# Altium schematic symbol library JLC_Lib.SchLib: 56 symbols
Pins are listed as number, name and electrical type; pins without a type are passive.

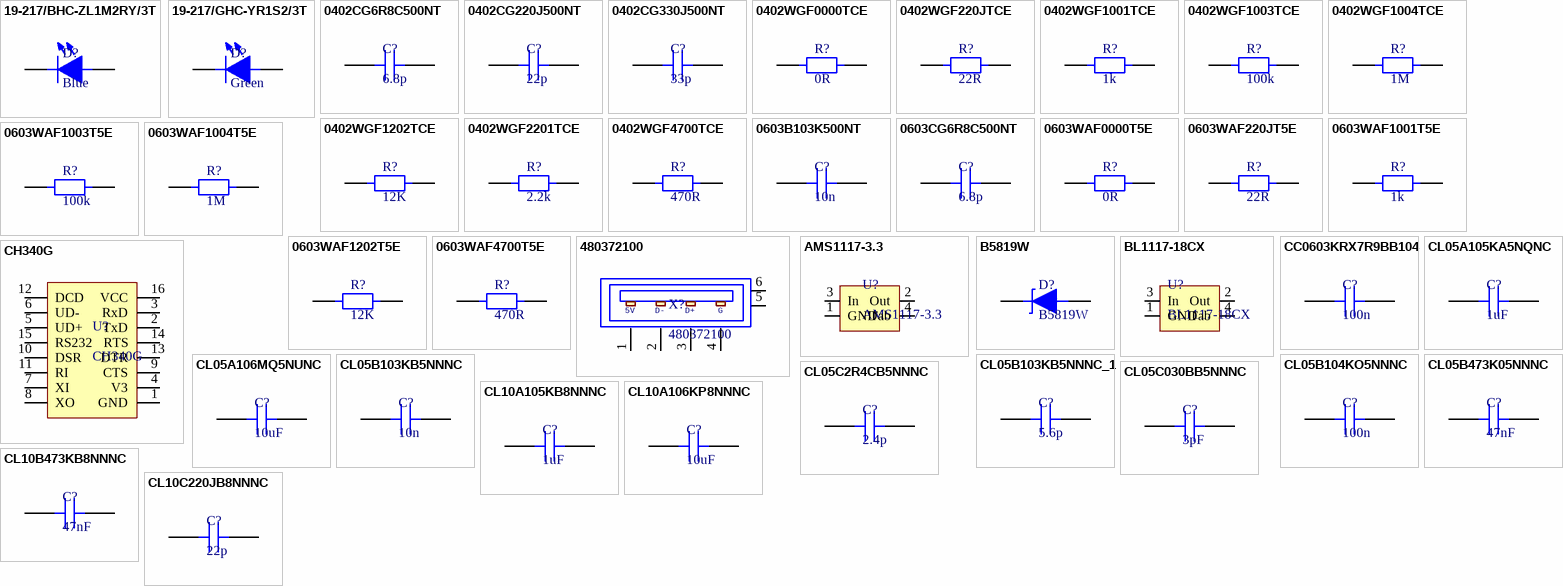
[diagram p0: symbols 19-217/BHC-ZL1M2RY/3T to CL10C220JB8NNNC]

## 19-217/BHC-ZL1M2RY/3T
designator D?, comment Blue
LIGHT EMITTING DIODES (LED) BLUE 465~475NM 11.5~28.5MCD@5MA TOP VIEW 0603 ROHS; Manufacturer: Everlight Elec; MFR.Part #: 19-217/BHC-ZL1M2RY/3T; Category: LED's; LCSC Part #: C72041; Package: LED_0603; Datasheet: https://datasheet.lcsc.com/szlcsc/Everlight-Elec-19-217-BHC-ZL1M2RY-3T_C72041.pdf
footprint LED 0603
pins: 1, 2

## 19-217/GHC-YR1S2/3T
designator D?, comment Green
LIGHT EMITTING DIODES (LED) GREEN 520~535NM 112~258MCD@20MA TOP VIEW 0603 ROHS; Manufacturer: Everlight Elec; MFR.Part #: 19-217/GHC-YR1S2/3T; Category: LED's; LCSC Part #: C72043; Package: LED_0603; Datasheet: https://datasheet.lcsc.com/szlcsc/Everlight-Elec-19-217-GHC-YR1S2-3T_C72043.pdf
footprint LED 0603
pins: 1, 2

## 0402CG6R8C500NT
designator C?, comment 6.8p
MULTILAYER CERAMIC CAPACITORS MLCC - SMD/SMT 6.8PF 50V 0402 ROHS; Manufacturer: Guangdong Fenghua Advanced Tech; MFR.Part #: 0402CG6R8C500NT; Category: Capacitors; LCSC Part #: C1576; Package: 0402; Datasheet: https://datasheet.lcsc.com/szlcsc/Guangdong-Fenghua-Advanced-Tech-0402CG6R8C500NT_C1576.pdf
footprint 0402 (Chip Capacitor, 2-Leads, Body 1.00x0.50mm, IPC Medium Density)
pins: 1, 2

## 0402CG220J500NT
designator C?, comment 22p
MULTILAYER CERAMIC CAPACITORS MLCC - SMD/SMT 22PF 50V 0402 ROHS; Manufacturer: Guangdong Fenghua Advanced Tech; MFR.Part #: 0402CG220J500NT; Category: Capacitors; LCSC Part #: C1555; Package: 0402; Datasheet: https://datasheet.lcsc.com/szlcsc/Guangdong-Fenghua-Advanced-Tech-0402CG220J500NT_C1555.pdf
footprint 0402 (Chip Capacitor, 2-Leads, Body 1.00x0.50mm, IPC Medium Density)
pins: 1, 2

## 0402CG330J500NT
designator C?, comment 33p
MULTILAYER CERAMIC CAPACITORS MLCC - SMD/SMT 33PF 50V 0402 ROHS; Manufacturer: Guangdong Fenghua Advanced Tech; MFR.Part #: 0402CG330J500NT; Category: Capacitors; LCSC Part #: C1562; Package: 0402; Datasheet: https://datasheet.lcsc.com/szlcsc/Guangdong-Fenghua-Advanced-Tech-0402CG330J500NT_C1562.pdf
footprint 0402 (Chip Capacitor, 2-Leads, Body 1.00x0.50mm, IPC Medium Density)
pins: 1, 2

## 0402WGF0000TCE
designator R?, comment 0R
CHIP RESISTOR - SURFACE MOUNT 0OHMS ±1% 1/16W 0402 ROHS; Manufacturer: Uniroyal Elec; MFR.Part #: 0402WGF0000TCE; Category: Resistors; LCSC Part #: C17168; Package: 0402; Datasheet: https://datasheet.lcsc.com/szlcsc/Uniroyal-Elec-0402WGF0000TCE_C17168.pdf
footprint 0402 RES
pins: 1, 2

## 0402WGF220JTCE
designator R?, comment 22R
CHIP RESISTOR - SURFACE MOUNT 22OHMS ±1% 1/16W 0402 ROHS; Manufacturer: Uniroyal Elec; MFR.Part #: 0402WGF220JTCE; Category: Resistors; LCSC Part #: C25092; Package: 0402; Datasheet: https://datasheet.lcsc.com/szlcsc/Uniroyal-Elec-0402WGF220JTCE_C25092.pdf
footprint 0402 RES
pins: 1, 2

## 0402WGF1001TCE
designator R?, comment 1k
CHIP RESISTOR - SURFACE MOUNT 1KOHMS ±1% 1/16W 0402 ROHS; Manufacturer: Uniroyal Elec; MFR.Part #: 0402WGF1001TCE; Category: Resistors; LCSC Part #: C11702; Package: 0402; Datasheet: https://datasheet.lcsc.com/szlcsc/Uniroyal-Elec-0402WGF1001TCE_C11702.pdf
footprint 0402 RES
pins: 1, 2

## 0402WGF1003TCE
designator R?, comment 100k
CHIP RESISTOR - SURFACE MOUNT 100KOHMS ±1% 1/16W 0402 ROHS; Manufacturer: Uniroyal Elec; MFR.Part #: 0402WGF1003TCE; Category: Resistors; LCSC Part #: C25741; Package: 0402; Datasheet: https://datasheet.lcsc.com/szlcsc/Uniroyal-Elec-0402WGF1003TCE_C25741.pdf
footprint 0402 RES
pins: 1, 2

## 0402WGF1004TCE
designator R?, comment 1M
CHIP RESISTOR - SURFACE MOUNT 1MOHMS ±1% 1/16W 0402 ROHS; Manufacturer: Uniroyal Elec; MFR.Part #: 0402WGF1004TCE; Category: Resistors; LCSC Part #: C26083; Package: 0402; Datasheet: https://datasheet.lcsc.com/szlcsc/Uniroyal-Elec-0402WGF1004TCE_C26083.pdf
footprint 0402 RES
pins: 1, 2

## 0402WGF1202TCE
designator R?, comment 12K
CHIP RESISTOR - SURFACE MOUNT 12KOHMS ±1% 1/16W 0402 ROHS; Manufacturer: Uniroyal Elec; MFR.Part #: 0402WGF1202TCE; Category: Resistors; LCSC Part #: C25752; Package: 0402; Datasheet: https://datasheet.lcsc.com/szlcsc/Uniroyal-Elec-0402WGF1202TCE_C25752.pdf
footprint 0402 RES
pins: 1, 2

## 0402WGF2201TCE
designator R?, comment 2.2k
CHIP RESISTOR - SURFACE MOUNT 2.2KOHMS ±1% 1/16W 0402 ROHS; Manufacturer: Uniroyal Elec; MFR.Part #: 0402WGF2201TCE; Category: Resistors; LCSC Part #: C25879; Package: 0402; Datasheet: https://datasheet.lcsc.com/szlcsc/Uniroyal-Elec-0402WGF2201TCE_C25879.pdf
footprint 0402 RES
pins: 1, 2

## 0402WGF4700TCE
designator R?, comment 470R
CHIP RESISTOR - SURFACE MOUNT 470OHMS ±1% 1/16W 0402 ROHS; Manufacturer: Uniroyal Elec; MFR.Part #: 0402WGF4700TCE; Category: Resistors; LCSC Part #: C25117; Package: 0402; Datasheet: https://datasheet.lcsc.com/szlcsc/Uniroyal-Elec-0402WGF4700TCE_C25117.pdf
footprint 0402 RES
pins: 1, 2

## 0603B103K500NT
designator C?, comment 10n
MULTILAYER CERAMIC CAPACITORS MLCC - SMD/SMT 10NF 50V 0603 ROHS; Manufacturer: Guangdong Fenghua Advanced Tech; MFR.Part #: 0603B103K500NT; Category: Capacitors; LCSC Part #: C57112; Package: 0603; Datasheet: https://datasheet.lcsc.com/szlcsc/Guangdong-Fenghua-Advanced-Tech-0603B103K500NT_C57112.pdf
footprint 0603 CAP
pins: 1, 2

## 0603CG6R8C500NT
designator C?, comment 6.8p
MULTILAYER CERAMIC CAPACITORS MLCC - SMD/SMT 6.8PF 50V 0603 ROHS; Manufacturer: Guangdong Fenghua Advanced Tech; MFR.Part #: 0603CG6R8C500NT; Category: Capacitors; LCSC Part #: C1679; Package: 0603; Datasheet: https://datasheet.lcsc.com/szlcsc/Guangdong-Fenghua-Advanced-Tech-0603CG6R8C500NT_C1679.pdf
footprint 0603 CAP
pins: 1, 2

## 0603WAF0000T5E
designator R?, comment 0R
CHIP RESISTOR - SURFACE MOUNT 0OHMS ±1% 1/10W 0603 ROHS; Manufacturer: Uniroyal Elec; MFR.Part #: 0603WAF0000T5E; Category: Resistors; LCSC Part #: C21189; Package: 0603; Datasheet: https://datasheet.lcsc.com/szlcsc/Uniroyal-Elec-0603WAF0000T5E_C21189.pdf
footprint 0603 RES
pins: 1, 2

## 0603WAF220JT5E
designator R?, comment 22R
CHIP RESISTOR - SURFACE MOUNT 22OHMS ±1% 1/10W 0603 ROHS; Manufacturer: Uniroyal Elec; MFR.Part #: 0603WAF220JT5E; Category: Resistors; LCSC Part #: C23345; Package: 0603; Datasheet: https://datasheet.lcsc.com/szlcsc/Uniroyal-Elec-0603WAF220JT5E_C23345.pdf
footprint 0603 RES
pins: 1, 2

## 0603WAF1001T5E
designator R?, comment 1k
CHIP RESISTOR - SURFACE MOUNT 1KOHMS ±1% 1/10W 0603 ROHS; Manufacturer: Uniroyal Elec; MFR.Part #: 0603WAF1001T5E; Category: Resistors; LCSC Part #: C21190; Package: 0603; Datasheet: https://datasheet.lcsc.com/szlcsc/Uniroyal-Elec-0603WAF1001T5E_C21190.pdf
footprint 0603 RES
pins: 1, 2

## 0603WAF1003T5E
designator R?, comment 100k
CHIP RESISTOR - SURFACE MOUNT 100KOHMS ±1% 1/10W 0603 ROHS; Manufacturer: Uniroyal Elec; MFR.Part #: 0603WAF1003T5E; Category: Resistors; LCSC Part #: C25803; Package: 0603; Datasheet: https://datasheet.lcsc.com/szlcsc/Uniroyal-Elec-0603WAF1003T5E_C25803.pdf
footprint 0603 RES
pins: 1, 2

## 0603WAF1004T5E
designator R?, comment 1M
CHIP RESISTOR - SURFACE MOUNT 1MOHMS ±1% 1/10W 0603 ROHS; Manufacturer: Uniroyal Elec; MFR.Part #: 0603WAF1004T5E; Category: Resistors; LCSC Part #: C22935; Package: 0603; Datasheet: https://datasheet.lcsc.com/szlcsc/Uniroyal-Elec-0603WAF1004T5E_C22935.pdf
footprint 0603 RES
pins: 1, 2

## 0603WAF1202T5E
designator R?, comment 12K
CHIP RESISTOR - SURFACE MOUNT 12KOHMS ±1% 1/10W 0603 ROHS; Manufacturer: Uniroyal Elec; MFR.Part #: 0603WAF1202T5E; Category: Resistors; LCSC Part #: C22790; Package: 0603; Datasheet: https://datasheet.lcsc.com/szlcsc/Uniroyal-Elec-0603WAF1202T5E_C22790.pdf
footprint 0603 RES
pins: 1, 2

## 0603WAF4700T5E
designator R?, comment 470R
CHIP RESISTOR - SURFACE MOUNT 470OHMS ±1% 1/10W 0603 ROHS; Manufacturer: Uniroyal Elec; MFR.Part #: 0603WAF4700T5E; Category: Resistors; LCSC Part #: C23179; Package: 0603; Datasheet: https://datasheet.lcsc.com/szlcsc/Uniroyal-Elec-0603WAF4700T5E_C23179.pdf
footprint 0603 RES
pins: 1, 2

## 480372100
designator X?
USB - Type A Male USB 2 4 Through Hole USB Connectors RoHS; Manufacturer: MOLEX; Category: Connectors; MFR.Part #: 480372100; LCSC Part #: C136453; Package: Through Hole; Datasheet: https://datasheet.lcsc.com/szlcsc/1811131824_MOLEX-480372100_C136453.pdf
footprint USB2.0-A
pins: 1 5V, 2 DX_N, 3 DX_P, 4 GND, 5, 6
text: D-; D+; G

## AMS1117-3.3
designator U?
LOW DROPOUT REGULATORS(LDO) POSITIVE FIXED 1.3V @ 800MA 15V 3.3V 1A SOT-223 ROHS; Manufacturer: Advanced Monolithic Systems; Category: IC's; MFR.Part #: AMS1117-3.3; LCSC Part #: C6186; Package: SOT-223; Datasheet: https://datasheet.lcsc.com/szlcsc/1811201117_Advanced-Monolithic-Systems-AMS-AMS1117-3-3_C6186.pdf; ComponentLink1Description: AMS1117-3-3_C6186; ComponentLink1URL: https://datasheet.lcsc.com/szlcsc/1811201117_Advanced-Monolithic-Systems-AMS-AMS1117-3-3_C6186.pdf
footprint SOT233-3 (SOT223, 4-Leads, Body 6.50x7.00mm (avg), Pitch 2.30mm, IPC Medium Density)
pins: 1 GND, 2 Out, 3 In, 4 Tab

## B5819W
designator D?
SCHOTTKY BARRIER DIODES (SBD) SOD-123 ROHS; Manufacturer: Changjiang Electronics Tech (CJ); Category: Diodes; MFR.Part #: B5819W; LCSC Part #: C8598; Package: SOD-123; Datasheet: https://datasheet.lcsc.com/szlcsc/Changjiang-Electronics-Tech-CJ-B5819W_C8598.pdf
footprint SOD-123 (SOD, 2-Leads, Body 1.60x3.70mm, IPC Medium Density)
pins: 1 A, 2 K

## BL1117-18CX
designator U?
LOW DROPOUT REGULATORS(LDO) POSITIVE FIXED 1.5V @ 1A 12V 1.8V 1A SOT-223 ROHS; Manufacturer: Shanghai Belling; Library Type: Extended; Category: IC's; MFR.Part #: BL1117-18CX; LCSC Part #: C78971; Package: SOT-223; Datasheet: https://datasheet.lcsc.com/szlcsc/Shanghai-Belling-BL1117-18CX_C78971.pdf
footprint SOT233-3 (SOT223, 4-Leads, Body 6.50x7.00mm (avg), Pitch 2.30mm, IPC Medium Density)
pins: 1 GND, 2 Out, 3 In, 4 Tab

## CC0603KRX7R9BB104
designator C?, comment 100n
MULTILAYER CERAMIC CAPACITORS MLCC - SMD/SMT 100NF 50V 0603 ROHS; Manufacturer: YAGEO; MFR.Part #: CC0603KRX7R9BB104; Category: Capacitors; LCSC Part #: C14663; Package: 0603; Datasheet: https://datasheet.lcsc.com/szlcsc/YAGEO-CC0603KRX7R9BB104_C14663.pdf
footprint 0603 CAP
pins: 1, 2

## CH340G
designator U?
USB 2MBPS 3.3V, 5V SOP-16_150MIL ROHS; Manufacturer: Jiangsu Qin Heng; Category: IC's; MFR.Part #: CH340G; LCSC Part #: C14267; Package: SOIC-16_3.9x9.9x1.27P; Datasheet: https://datasheet.lcsc.com/szlcsc/Jiangsu-Qin-Heng-CH340G_C14267.pdf
footprint SOP-16 (SOP, 16-Leads, Body 9.90x3.90mm, Pitch 1.27mm, IPC Medium Density)
pins: 1 GND, 2 TxD, 3 RxD, 4 V3, 5 UD+, 6 UD-, 7 XI, 8 XO, 9 CTS, 10 DSR, 11 RI, 12 DCD, 13 DTR, 14 RTS, 15 RS232, 16 VCC

## CL05A105KA5NQNC
designator C?, comment 1uF
MULTILAYER CERAMIC CAPACITORS MLCC - SMD/SMT 1UF 25V 0402 ROHS; Manufacturer: Samsung Electro-Mechanics; MFR.Part #: CL05A105KA5NQNC; Category: Capacitors; LCSC Part #: C52923; Package: 0402; Datasheet: https://datasheet.lcsc.com/szlcsc/Samsung-Electro-Mechanics-CL05A105KA5NQNC_C52923.pdf
footprint 0402 (Chip Capacitor, 2-Leads, Body 1.00x0.50mm, IPC Medium Density)
pins: 1, 2

## CL05A106MQ5NUNC
designator C?, comment 10uF
MULTILAYER CERAMIC CAPACITORS MLCC - SMD/SMT 10UF 6.3V 0402 ROHS; Manufacturer: Samsung Electro-Mechanics; MFR.Part #: CL05A106MQ5NUNC; Category: Capacitors; LCSC Part #: C15525; Package: 0402; Datasheet: https://datasheet.lcsc.com/szlcsc/Samsung-Electro-Mechanics-CL05A106MQ5NUNC_C15525.pdf
footprint 0402 (Chip Capacitor, 2-Leads, Body 1.00x0.50mm, IPC Medium Density)
pins: 1, 2

## CL05B103KB5NNNC
designator C?, comment 10n
MULTILAYER CERAMIC CAPACITORS MLCC - SMD/SMT 10NF 50V 0402 ROHS; Manufacturer: Samsung Electro-Mechanics; MFR.Part #: CL05B103KB5NNNC; Category: Capacitors; LCSC Part #: C15195; Package: 0402; Datasheet: https://datasheet.lcsc.com/szlcsc/Samsung-Electro-Mechanics-CL05B103KB5NNNC_C15195.pdf
footprint 0402 (Chip Capacitor, 2-Leads, Body 1.00x0.50mm, IPC Medium Density)
pins: 1, 2

## CL05B103KB5NNNC_1
designator C?, comment 5.6p
5.6PF ±0.25PF 50V C0G 0402 MULTILAYER CERAMIC CAPACITORS MLCC - SMD/SMT ROHS; Manufacturer: Samsung Electro-Mechanics; MFR.Part #: CL05C5R6CB5NNNC; Library Type: Extended; Category: Capacitors; LCSC Part #: C318596; Package: 0402; Datasheet: https://datasheet.lcsc.com/szlcsc/1811131657_Samsung-Electro-Mechanics-CL05C5R6CB5NNNC_C318596.pdf; ComponentLink1Description: CL05C5R6CB5NNNC_C318596.pdf; ComponentLink1URL: https://datasheet.lcsc.com/szlcsc/1811131657_Samsung-Electro-Mechanics-CL05C5R6CB5NNNC_C318596.pdf
footprint 0402 (Chip Capacitor, 2-Leads, Body 1.00x0.50mm, IPC Medium Density)
pins: 1, 2

## CL05B104KO5NNNC
designator C?, comment 100n
MULTILAYER CERAMIC CAPACITORS MLCC - SMD/SMT 100NF 16V 0402 ROHS; Manufacturer: Samsung Electro-Mechanics; MFR.Part #: CL05B104KO5NNNC; Category: Capacitors; LCSC Part #: C1525; Package: 0402; Datasheet: https://datasheet.lcsc.com/szlcsc/Samsung-Electro-Mechanics-CL05B104KO5NNNC_C1525.pdf
footprint 0402 (Chip Capacitor, 2-Leads, Body 1.00x0.50mm, IPC Medium Density)
pins: 1, 2

## CL05B473K05NNNC
designator C?, comment 47nF
MULTILAYER CERAMIC CAPACITORS MLCC - SMD/SMT 47NF 16V 0402 ROHS; Manufacturer: Samsung Electro-Mechanics; MFR.Part #: CL05B473K05NNNC; Category: Capacitors; LCSC Part #: C26403; Package: 0402; Datasheet: https://datasheet.lcsc.com/szlcsc/Samsung-Electro-Mechanics-CL05B473K05NNNC_C26403.pdf
footprint 0402 (Chip Capacitor, 2-Leads, Body 1.00x0.50mm, IPC Medium Density)
pins: 1, 2

## CL05C2R4CB5NNNC
designator C?, comment 2.4p
MULTILAYER CERAMIC CAPACITORS MLCC - SMD/SMT 2.4PF 50V 0402 ROHS; Manufacturer: Samsung Electro-Mechanics; MFR.Part #: CL05C2R4CB5NNNC; Library Type: Extended; Category: Capacitors; LCSC Part #: C318575; Package: 0402; Datasheet: https://datasheet.lcsc.com/szlcsc/Samsung-Electro-Mechanics-CL05C2R4CB5NNNC_C318575.pdf
footprint 0402 (Chip Capacitor, 2-Leads, Body 1.00x0.50mm, IPC Medium Density)
pins: 1, 2

## CL05C030BB5NNNC
designator C?, comment 3pF
MULTILAYER CERAMIC CAPACITORS MLCC - SMD/SMT 3PF 50V 0402 ROHS; Manufacturer: Samsung Electro-Mechanics; MFR.Part #: CL05C030BB5NNNC; Library Type: Extended; Category: Capacitors; LCSC Part #: C318583; Package: 0402; Datasheet: https://datasheet.lcsc.com/szlcsc/Samsung-Electro-Mechanics-CL05C030BB5NNNC_C318583.pdf
footprint 0402 (Chip Capacitor, 2-Leads, Body 1.00x0.50mm, IPC Medium Density)
pins: 1, 2

## CL10A105KB8NNNC
designator C?, comment 1uF
MULTILAYER CERAMIC CAPACITORS MLCC - SMD/SMT 1UF 50V 0603 ROHS; Manufacturer: Samsung Electro-Mechanics; MFR.Part #: CL10A105KB8NNNC; Category: Capacitors; LCSC Part #: C15849; Package: 0603; Datasheet: https://datasheet.lcsc.com/szlcsc/Samsung-Electro-Mechanics-CL10A105KB8NNNC_C15849.pdf
footprint 0603 CAP
pins: 1, 2

## CL10A106KP8NNNC
designator C?, comment 10uF
MULTILAYER CERAMIC CAPACITORS MLCC - SMD/SMT 10UF 10V 0603 ROHS; Manufacturer: Samsung Electro-Mechanics; MFR.Part #: CL10A106KP8NNNC; Category: Capacitors; LCSC Part #: C19702; Package: 0603; Datasheet: https://datasheet.lcsc.com/szlcsc/Samsung-Electro-Mechanics-CL10A106KP8NNNC_C19702.pdf
footprint 0603 CAP
pins: 1, 2

## CL10B473KB8NNNC
designator C?, comment 47nF
MULTILAYER CERAMIC CAPACITORS MLCC - SMD/SMT 47NF 50V 0603 ROHS; Manufacturer: Samsung Electro-Mechanics; MFR.Part #: CL10B473KB8NNNC; Category: Capacitors; LCSC Part #: C1622; Package: 0603; Datasheet: https://datasheet.lcsc.com/szlcsc/Samsung-Electro-Mechanics-CL10B473KB8NNNC_C1622.pdf
footprint 0603 CAP
pins: 1, 2

## CL10C220JB8NNNC
designator C?, comment 22p
MULTILAYER CERAMIC CAPACITORS MLCC - SMD/SMT 22PF 50V 0603 ROHS; Manufacturer: Samsung Electro-Mechanics; MFR.Part #: CL10C220JB8NNNC; Category: Capacitors; LCSC Part #: C1653; Package: 0603; Datasheet: https://datasheet.lcsc.com/szlcsc/Samsung-Electro-Mechanics-CL10C220JB8NNNC_C1653.pdf
footprint 0603 CAP
pins: 1, 2

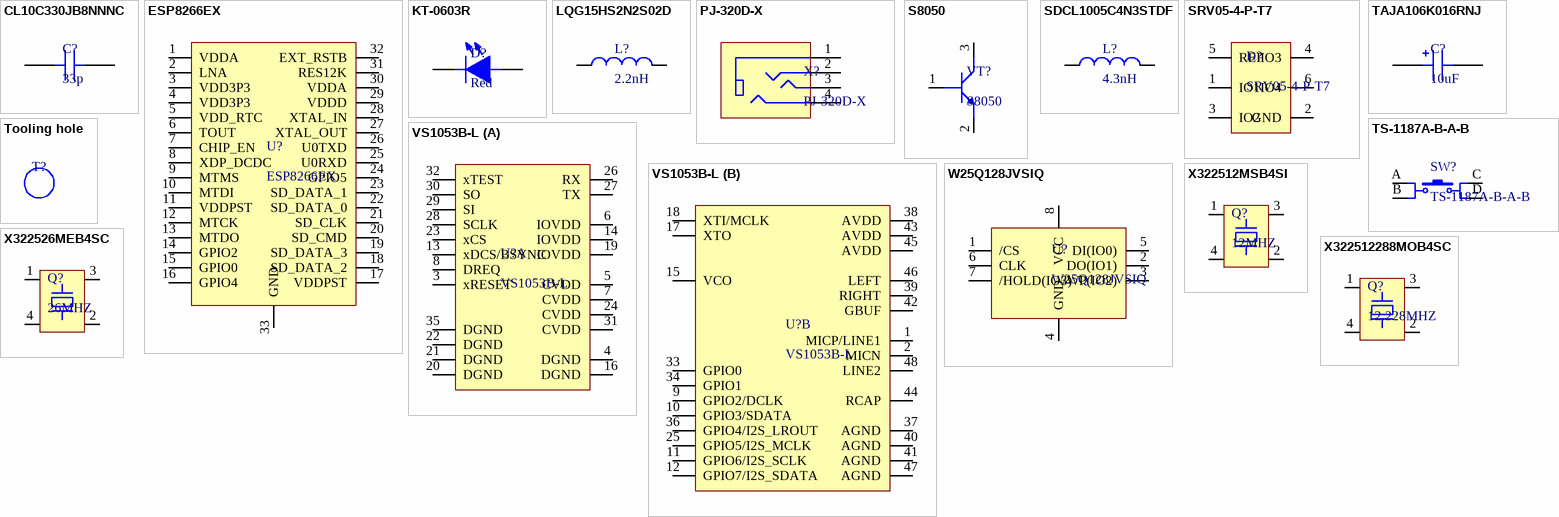
[diagram p1: symbols CL10C330JB8NNNC to X322512288MOB4SC]

## CL10C330JB8NNNC
designator C?, comment 33p
MULTILAYER CERAMIC CAPACITORS MLCC - SMD/SMT 33PF 50V 0603 ROHS; Manufacturer: Samsung Electro-Mechanics; MFR.Part #: CL10C330JB8NNNC; Category: Capacitors; LCSC Part #: C1663; Package: 0603; Datasheet: https://datasheet.lcsc.com/szlcsc/Samsung-Electro-Mechanics-CL10C330JB8NNNC_C1663.pdf
footprint 0603 CAP
pins: 1, 2

## ESP8266EX
designator U?
RF TRANSCEIVER ICS TXRX + MCU WIFI 802.11B/G/N/E/I 2.4GHZ 16DBM - 91DBM 2.5V~3.6V QFN-32_5X5X05P ROHS; Manufacturer: Espressif Systems; Library Type: Extended; Category: IC's; MFR.Part #: ESP8266EX; LCSC Part #: C77967; Package: QFN-32_EP_5.0x5.0x0.5P; Datasheet: https://datasheet.lcsc.com/szlcsc/Espressif-Systems-ESP8266EX_C77967.pdf
footprint QFN-32 Thermal (QFN, 32-Leads, Body 5.00x5.00mm, Pitch 0.50mm, Thermal Pad 3.70x3.70mm, IPC Medium Density)
pins: 1 VDDA, 2 LNA, 3 VDD3P3, 4 VDD3P3, 5 VDD_RTC, 6 TOUT, 7 CHIP_EN, 8 XDP_DCDC, 9 MTMS, 10 MTDI, 11 VDDPST, 12 MTCK, 13 MTDO, 14 GPIO2, 15 GPIO0, 16 GPIO4, 17 VDDPST, 18 SD_DATA_2, 19 SD_DATA_3, 20 SD_CMD, 21 SD_CLK, 22 SD_DATA_0, 23 SD_DATA_1, 24 GPIO5, 25 U0RXD, 26 U0TXD, 27 XTAL_OUT, 28 XTAL_IN, 29 VDDD, 30 VDDA, 31 RES12K, 32 EXT_RSTB, 33 GND

## KT-0603R
designator D?, comment Red
LIGHT EMITTING DIODES (LED) RED 520~625NM 90~100MCD@20MA TOP VIEW 0603 ROHS; Manufacturer: Hubei KENTO Elec; MFR.Part #: KT-0603R; Category: LED's; LCSC Part #: C2286; Package: LED_0603; Datasheet: https://datasheet.lcsc.com/szlcsc/Hubei-KENTO-Elec-KT-0603R_C2286.pdf
footprint LED 0603
pins: 1, 2

## LQG15HS2N2S02D
designator L?, comment 2.2nH
HF INDUCTORS 2.2NH ±0.3NH 900MA 0402 ROHS; Manufacturer: Murata Electronics; MFR.Part #: LQG15HS2N2S02D; Library Type: Extended; Category: Inductors; LCSC Part #: C86061; Package: 0402; Datasheet: https://datasheet.lcsc.com/szlcsc/Murata-Electronics-LQG15HS2N2S02D_C86061.pdf
footprint 0402 (Chip Capacitor, 2-Leads, Body 1.00x0.50mm, IPC Medium Density)
pins: 1, 2

## PJ-320D-X
designator X?
3.5mm SMD Headphone Holder 4 Female Horizontal SMD Audio & Video Connectors RoHS; Manufacturer: XKB Enterprise; Category: Connectors; MFR.Part #: PJ-320D-X; LCSC Part #: C319111; Package: SMD; Datasheet: https://datasheet.lcsc.com/szlcsc/1810301445_XKB-Enterprise-PJ-320D-X_C319111.pdf; ComponentLink1Description: PJ-320D-X; ComponentLink1URL: https://datasheet.lcsc.com/szlcsc/1810301445_XKB-Enterprise-PJ-320D-X_C319111.pdf
footprint 3.5mm Jack
pins: 1, 2, 3, 4

## S8050
designator VT?
TRANSISTORS (NPN/PNP) NPN 500MA 25V SOT-23(SOT-23-3) ROHS; Manufacturer: Changjiang Electronics Tech (CJ); Category: Transistors; MFR.Part #: S8050; LCSC Part #: C2146; Package: SOT-23-3; Datasheet: https://datasheet.lcsc.com/szlcsc/Changjiang-Electronics-Tech-CJ-S8050_C2146.pdf
footprint SOT-23 (SOT23, 3-Leads, Body 2.92x2.37mm, Pitch 0.90mm, IPC Medium Density)
pins: 1, 2, 3

## SDCL1005C4N3STDF
designator L?, comment 4.3nH
HF INDUCTORS 4.3NH ±0.3NH 300MA 0402 ROHS; Manufacturer: Sunlord; MFR.Part #: SDCL1005C4N3STDF; Library Type: Extended; Category: Inductors; LCSC Part #: C52051; Package: 0402; Datasheet: https://datasheet.lcsc.com/szlcsc/Sunlord-SDCL1005C4N3STDF_C52051.pdf
footprint 0402 (Chip Capacitor, 2-Leads, Body 1.00x0.50mm, IPC Medium Density)
pins: 1, 2

## SRV05-4-P-T7
designator D?
TVS SOT-23-6 ROHS; Manufacturer: ProTek Devices; Category: Diodes; MFR.Part #: SRV05-4-P-T7; LCSC Part #: C85364; Package: SOT-23-6L; Datasheet: https://datasheet.lcsc.com/szlcsc/ProTek-Devices-SRV05-4-P-T7_C85364.pdf; ComponentLink1Description: SRV05-4-P-T7_C85364; ComponentLink1URL: https://datasheet.lcsc.com/szlcsc/ProTek-Devices-SRV05-4-P-T7_C85364.pdf
footprint SOT-23-6 (SOT23, 6-Leads, Body 2.90x2.80mm, Pitch 0.95mm, IPC Medium Density)
pins: 1 IO1, 2 GND, 3 IO2, 4 IO3, 5 REF, 6 IO4

## TAJA106K016RNJ
designator C?, comment 10uF
TANTALUM CAPACITORS 10UF 16V CASE-A_3216 ROHS; Manufacturer: AVX; MFR.Part #: TAJA106K016RNJ; Category: Capacitors; LCSC Part #: C7171; Package: CASE-A_3216; Datasheet: https://datasheet.lcsc.com/szlcsc/AVX-TAJA106K016RNJ_C7171.pdf
footprint CAP 1206 (Molded Capacitor, 2-Leads, Body 3.20x1.60mm, IPC Medium Density)
pins: 1, 2

## Tooling hole
designator T?  (value not drawn)  (no BOM)
For JLCPCB SMT Assembly
footprint Tooling

## TS-1187A-B-A-B
designator SW?
TACTILE SWITCHES SPST 5.10MM X 5.10MM 0.40MM 50MA @ 12VDC SMD ROHS; Manufacturer: XKB Enterprise; Library Type: Extended; Category: Tactical Switches; MFR.Part #: TS-1187A-B-A-B; LCSC Part #: C318884; Package: SMD-SW-4_5.1x5.1x1.5; Datasheet: https://datasheet.lcsc.com/szlcsc/1901111503_XKB-Enterprise-TS-1187A-B-A-B_C318884.pdf; ComponentLink1Description: TS-1187A-B-A-B_C318884; ComponentLink1URL: https://datasheet.lcsc.com/szlcsc/1901111503_XKB-Enterprise-TS-1187A-B-A-B_C318884.pdf
footprint TS-1187 (TACTILE SWITCH)
pins: A, B, C, D

## VS1053B-L
designator U?
VIDEO-AUDIO INTERFACE ICS LQFP-48_7X7X05P ROHS; Manufacturer: VLSI Solution; Library Type: Extended; Category: IC's; MFR.Part #: VS1053B-L; LCSC Part #: C9922; Package: LQFP-48_7.0x7.0x0.5P; Datasheet: https://datasheet.lcsc.com/szlcsc/VLSI-Solution-VS1053B_C9922.pdf
footprint LQFP-48 (LQFP, 48-Leads, Body 7.00x7.00mm, Pitch 0.50mm, IPC Medium Density)
part A pins: 3 xRESET, 4 DGND, 5 CVDD, 6 IOVDD, 7 CVDD, 8 DREQ, 13 xDCS/BSYNC, 14 IOVDD, 16 DGND, 19 IOVDD, 20 DGND, 21 DGND, 22 DGND, 23 xCS, 24 CVDD, 26 RX, 27 TX, 28 SCLK, 29 SI, 30 SO, 31 CVDD, 32 xTEST, 35 DGND
part B pins: 1 MICP/LINE1, 2 MICN, 9 GPIO2/DCLK, 10 GPIO3/SDATA, 11 GPIO6/I2S_SCLK, 12 GPIO7/I2S_SDATA, 15 VCO, 17 XTO, 18 XTI/MCLK, 25 GPIO5/I2S_MCLK, 33 GPIO0, 34 GPIO1, 36 GPIO4/I2S_LROUT, 37 AGND, 38 AVDD, 39 RIGHT, 40 AGND, 41 AGND, 42 GBUF, 43 AVDD, 44 RCAP, 45 AVDD, 46 LEFT, 47 AGND, 48 LINE2

## W25Q128JVSIQ
designator U?
FLASH FLASH 128MB (16M X 8) SPI - DUAL/QUAD I/O SOIC-8_208MIL ROHS; Manufacturer: Winbond Elec; Category: IC's; MFR.Part #: W25Q128JVSIQ; LCSC Part #: C97521; Package: SOIC-8_5.3x5.3x1.27P; Datasheet: https://datasheet.lcsc.com/szlcsc/Winbond-Elec-W25Q128JVSIQTR_C97521.pdf
footprint SOIC-8 208-mil (SOIC, 8-Leads, Body 5.28x5.28mm, Pitch 1.27mm, IPC Medium Density)
pins: 1 /CS, 2 DO(IO1), 3 /WP(IO2), 4 GND, 5 DI(IO0), 6 CLK, 7 /HOLD(IO3), 8 VCC

## X322512MSB4SI
designator Q?, comment 12MHZ
SMD CRYSTAL RESONATORS 12MHZ ±10PPM SMD-3225_4P ROHS; Manufacturer: Yangxing Tech; MFR.Part #: X322512MSB4SI; Category: Crystals; LCSC Part #: C9002; Package: SMD-3225_4P; Datasheet: https://datasheet.lcsc.com/szlcsc/Yangxing-Tech-X322512MSB4SI_C9002.pdf; ComponentLink1Description: X322512MSB4SI_C9002.pdf; ComponentLink1URL: https://datasheet.lcsc.com/szlcsc/Yangxing-Tech-X322512MSB4SI_C9002.pdf
footprint ABM8W (4-Leads, Body 2.50x3.20mm, Pitch 2.20mm, IPC Medium Density)
pins: 1, 2 GND, 3, 4 GND

## X322526MEB4SC
designator Q?, comment 26MHZ
SMD CRYSTAL RESONATORS 26MHZ ±10PPM SMD-3225_4P ROHS; Manufacturer: Yangxing Tech; MFR.Part #: X322526MEB4SC; Category: Crystals; LCSC Part #: C23425; Package: SMD-3225_4P; Datasheet: https://datasheet.lcsc.com/szlcsc/Yangxing-Tech-X322526MEB4SC_C23425.pdf
footprint ABM8W (4-Leads, Body 2.50x3.20mm, Pitch 2.20mm, IPC Medium Density)
pins: 1, 2 GND, 3, 4 GND

## X322512288MOB4SC
designator Q?, comment 12.228MHZ
SMD CRYSTAL RESONATORS 12.288MHZ ±10PPM SMD-3225_4P ROHS; Manufacturer: Yangxing Tech; MFR.Part #: X322512288MOB4SC; Category: Crystals; LCSC Part #: C70567; Package: SMD-3225_4P; Datasheet: https://datasheet.lcsc.com/szlcsc/LCSC-X322512288MOB4SC_C70567.pdf
footprint ABM8W (4-Leads, Body 2.50x3.20mm, Pitch 2.20mm, IPC Medium Density)
pins: 1, 2 GND, 3, 4 GND